# EAGLE library part 87264-32 (library untitled)
RECEPTACAL
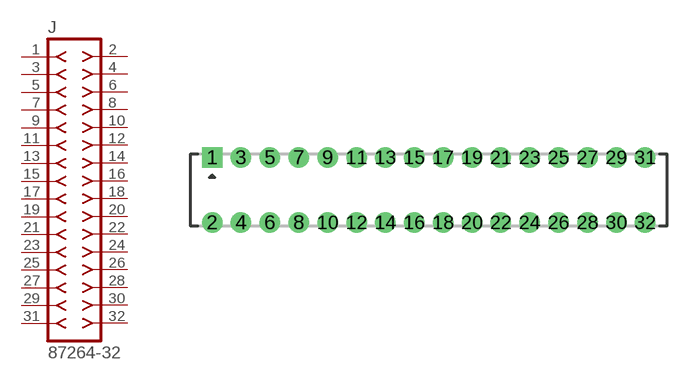
[diagram p217: symbol with the pads of 87264-32; footprint 87264-32]

Designator prefix J

## 87264-32  [87264-32]
1  1  pas
2  2  pas
3  3  pas
4  4  pas
5  5  pas
6  6  pas
7  7  pas
8  8  pas
9  9  pas
10  10  pas
11  11  pas
12  12  pas
13  13  pas
14  14  pas
15  15  pas
16  16  pas
17  17  pas
18  18  pas
19  19  pas
20  20  pas
21  21  pas
22  22  pas
23  23  pas
24  24  pas
25  25  pas
26  26  pas
27  27  pas
28  28  pas
29  29  pas
30  30  pas
31  31  pas
32  32  pas

## Footprint 87264-32 (pad centres in mm)
RECEPTACAL Dual Row, Side Entry
drill 0.914 square: 1 -15,2.25
drill 0.914 round: 2 -15,-2.25; 3 -13,2.25; 4 -13,-2.25; 5 -11,2.25; 6 -11,-2.25; 7 -9,2.25; 8 -9,-2.25; 9 -7,2.25; 10 -7,-2.25; 11 -5,2.25; 12 -5,-2.25; 13 -3,2.25; 14 -3,-2.25; 15 -1,2.25; 16 -1,-2.25; 17 1,2.25; 18 1,-2.25; 19 3,2.25; 20 3,-2.25; 21 5,2.25; 22 5,-2.25; 23 7,2.25; 24 7,-2.25; 25 9,2.25; 26 9,-2.25; 27 11,2.25; 28 11,-2.25; 29 13,2.25; 30 13,-2.25; 31 15,2.25; 32 15,-2.25